# EAGLE library part TMR2-*WI (library ic)
TMR 2-xx2xWI, 2W DC/DC converter (Traco Power) Dual output
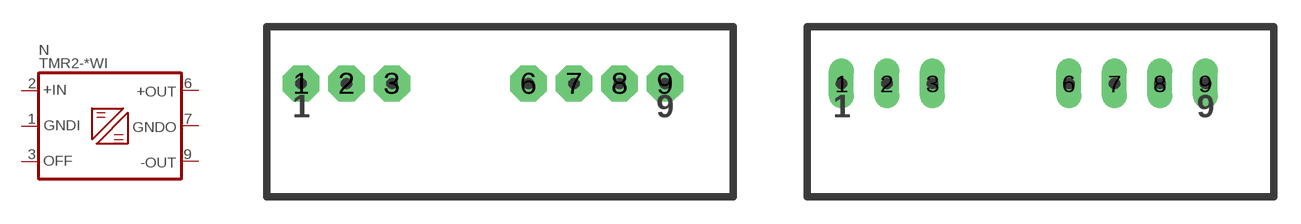
[diagram p133: symbol with the pads of TMR2WIN; footprints TMR2WIN, TMR2WIL]

Designator prefix N

## TMR2-2421WI, TMR2-2422WI, TMR2-2423WI, TMR2-4821WI, TMR2-4822WI, TMR2-4823WI  [TMR2WIN]
1  GNDI  pwr
2  +IN  pwr
3  OFF
6  +OUT  out
7  GNDO  out
9  -OUT  out

## TMR2-2421WIN, TMR2-2422WIN, TMR2-2423WIN, TMR2-4821WIN, TMR2-4822WIN, TMR2-4823WIN  [TMR2WIN]
Pads as for TMR2WIN

## TMR2-2421WIL, TMR2-2422WIL, TMR2-2423WIL, TMR2-4821WIL, TMR2-4822WIL, TMR2-4823WIL  [TMR2WIL]
Pads as for TMR2WIN

## Footprint TMR2WIN (pad centres in mm)
TMR 2WI, 2W DC/DC converter (Traco Power)
drill 0.813 pad 2.032 octagon: 1 -10.16,0; 2 -7.62,0; 3 -5.08,0; 6 2.54,0; 7 5.08,0; 8 7.62,0; 9 10.16,0

## Footprint TMR2WIL (pad centres in mm)
TMR 2WI, 2W DC/DC converter (Traco Power), long pads
drill 0.813 pad 1.397 long: 1 -10.16,0; 2 -7.62,0; 3 -5.08,0; 6 2.54,0; 7 5.08,0; 8 7.62,0; 9 10.16,0